# EAGLE library part TQ2SS (library SlideSentinel)
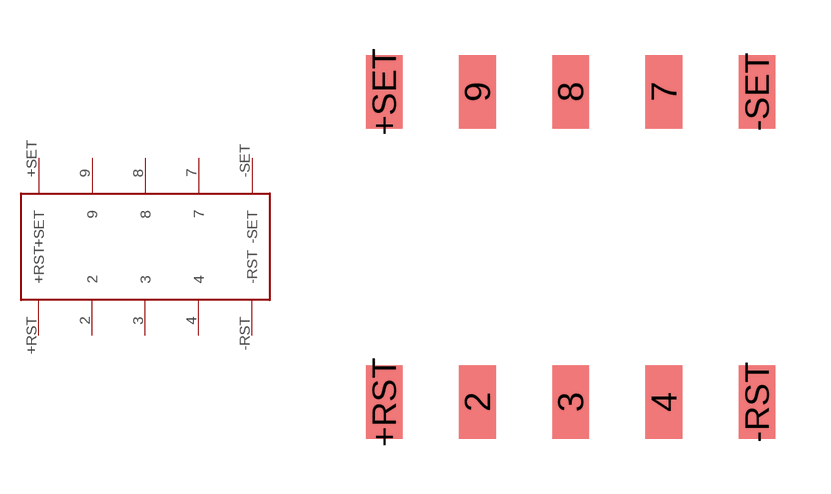
[diagram p4: symbol with the pads of TQ2SS; footprint TQ2SS]

Designator prefix -

## TQ2SS  [TQ2SS]
2  2
3  3
4  4
7  7
8  8
9  9
+RST  +RST
+SET  +SET
-RST  -RST
-SET  -SET

## Footprint TQ2SS (pad centres in mm)
smd 1 x 2: 2 -2.16,-4.418; 3 0.38,-4.418; 4 2.92,-4.418; 7 2.92,4.04; 8 0.38,4.04; 9 -2.16,4.04; +RST -4.7,-4.418; +SET -4.7,4.04; -RST 5.46,-4.418; -SET 5.46,4.04